# EAGLE library part 691411710021 (library Wurth_Elektronik_Electromechanic_Terminal_Blocks_Connectors_rev16b)
WR-TBL Terminal block - serie 411 5,0mm - Spring clamp/Screw less - Horizontal entry - 24p Code:Con_TBL_Screwless_5.00_6914117100xxB Created 2014-12-22, aslant tao 2014 (C) Würth Elektronik
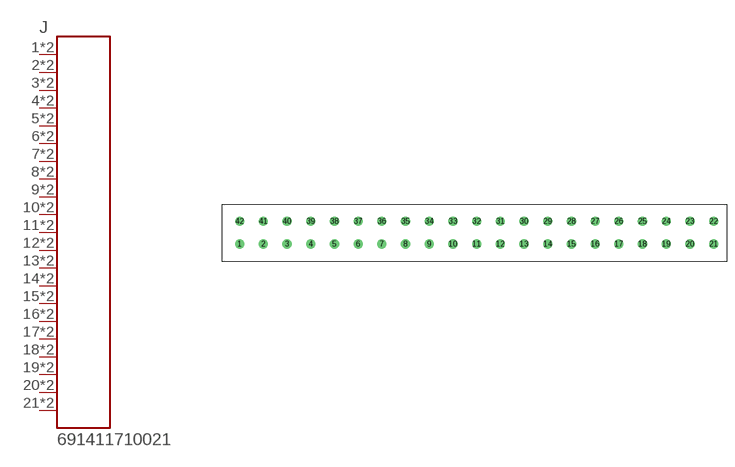
[diagram p286: symbol with the pads of 691411710021; footprint 691411710021]

Designator prefix J

## 691411710021  [691411710021]
1  1  pas
2  2  pas
3  3  pas
4  4  pas
5  5  pas
6  6  pas
7  7  pas
8  8  pas
9  9  pas
10  10  pas
11  11  pas
12  12  pas
13  13  pas
14  14  pas
15  15  pas
16  16  pas
17  17  pas
18  18  pas
19  19  pas
20  20  pas
21  21  pas
22  21  pas
23  20  pas
24  19  pas
25  18  pas
26  17  pas
27  16  pas
28  15  pas
29  14  pas
30  13  pas
31  12  pas
32  11  pas
33  10  pas
34  9  pas
35  8  pas
36  7  pas
37  6  pas
38  5  pas
39  4  pas
40  3  pas
41  2  pas
42  1  pas

## Footprint 691411710021 (pad centres in mm)
WR-TBL Serie 411 - 5.0mm Screwless Horizontal Entry - 2 mm2 Wires, 21 Pins
drill 1.3: 1 0,0; 2 5,0; 3 10,0; 4 15,0; 5 20,0; 6 25,0; 7 30,0; 8 35,0; 9 40,0; 10 45,0; 11 50,0; 12 55,0; 13 60,0; 14 65,0; 15 70,0; 16 75,0; 17 80,0; 18 85,0; 19 90,0; 20 95,0; 21 100,0; 22 100,4.8; 23 95,4.8; 24 90,4.8; 25 85,4.8; 26 80,4.8; 27 75,4.8; 28 70,4.8; 29 65,4.8; 30 60,4.8; 31 55,4.8; 32 50,4.8; 33 45,4.8; 34 40,4.8; 35 35,4.8; 36 30,4.8; 37 25,4.8; 38 20,4.8; 39 15,4.8; 40 10,4.8; 41 5,4.8; 42 0,4.8